# Altium schematic symbol library Inductors.SchLib: 25 symbols
Pins are listed as number, name and electrical type; pins without a type are passive.

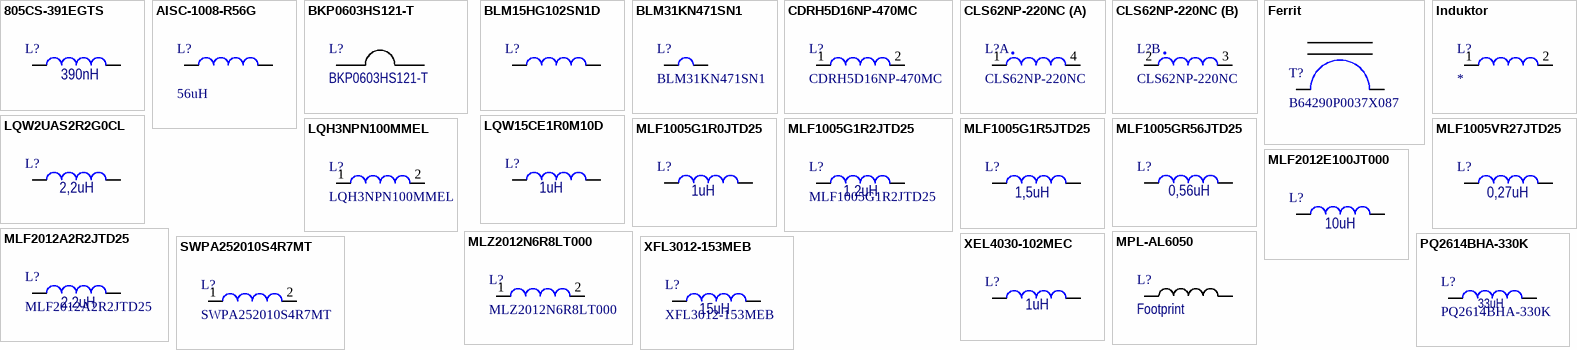
[diagram p0: symbols 805CS-391EGTS to XFL3012-153MEB]

## 805CS-391EGTS
designator L?  value 390nH  (hidden comment: 805CS-391EGTS)
FIXED IND 390NH 290MA 1.5OHM SMD
footprint 0805CS-391EGTS
pins: 1, 2

## AISC-1008-R56G
designator L?  value 56uH  (hidden comment: AISC-1008-R56G)
SMD Wire-Wound Chip Inductor (Ceramic or Ferrite Core)
footprint AISC-1008-R56G
pins: 1, 2

## BKP0603HS121-T
designator L?
Ferrite Beads HI CUR LW RDC 0201 120 OHM 25%
footprint Beam 0201 (0603) (Ferrite Beam)
pins: 1, 2

## BLM15HG102SN1D
designator L?, comment Murata Electronics BLM15HG102SN1D  (value not drawn)
1.1Ω ±25% 1kΩ@100MHz 0402 Ferrite Beads ROHS; Supplier 1: Mouser; Supplier Part Number 1: 81-BLM15HG102SN1D
footprint MLF1005G1R2JTD25
pins: 1, 2

## BLM31KN471SN1
designator L?
Chip Ferrite Bead
footprint BLM31KN471SN1
pins: 1, 2

## CDRH5D16NP-470MC
designator L?
600mA 47uH ±20% 680mA - Power Inductors ROHS
footprint CDRH5D16NP-470MC
pins: 1, 2

## CLS62NP-220NC
designator L?
22 µH Shielded Inductor 468 mA 355mOhm Max 4-SMD
footprint CLS62NP-220NC
part A pins: 1, 4
part B pins: 2, 3

## Ferrit
designator T?, comment B64290P0037X087
Сердечник N87 R6,3x3,8x2,5
footprint Ferrite
pins: 1, 2

## Induktor
designator L?
pins: 1, 2

## LQH3NPN100MMEL
designator L?
800mA 10uH ±20% 810mA 190mΩ SMD,3x3mm Inductors (SMD) ROHS
footprint Inductor 3x3mm
pins: 1, 2

## LQW2UAS2R2G0CL
designator L?  value 2,2uH  (hidden comment: LQW2UAS2R2G0CL)
FIXED IND 2.2UH 280MA 2.8OHM SMD
footprint LQW2UAS2R2G0CL
pins: 1, 2

## LQW15CE1R0M10D
designator L?  value 1uH  (hidden comment: LQW15CE1R0M10D)
135mA 1uH ±20% 480mA 0402  Power Inductors ROHS
footprint LQW15CE1R0M10D
pins: 1, 2

## MLF1005G1R0JTD25
designator L?  value 1uH  (hidden comment: MLF1005G1R0JTD25)
RF Inductors - SMD 0402 1.0uH 5% AEC-Q200
footprint MLF1005G1R2JTD25
pins: 1, 2

## MLF1005G1R2JTD25
designator L?  value 1,2uH
RF Inductors - SMD 0402 1.2uH 5% AEC-Q200
footprint MLF1005G1R2JTD25
pins: 1, 2

## MLF1005G1R5JTD25
designator L?  value 1,5uH  (hidden comment: MLF1005G1R5JTD25)
RF Inductors - SMD 0402 1.5uH 5% AEC-Q200
footprint MLF1005G1R2JTD25
pins: 1, 2

## MLF1005GR56JTD25
designator L?  value 0,56uH  (hidden comment: MLF1005GR56JTD25)
RF Inductors - SMD 0402 0.56uH 5% AEC-Q200
footprint MLF1005G1R2JTD25
pins: 1, 2

## MLF1005VR27JTD25
designator L?  value 0,27uH  (hidden comment: MLF1005VR27JTD25)
RF Inductors - SMD 0402 0.27uH 5% AEC-Q200
footprint MLF1005G1R2JTD25
pins: 1, 2

## MLF2012A2R2JTD25
designator L?  value 2.2uH
RF Inductors - SMD 2.2uH 500mohms 50mA +/-5% Fer AEC-Q200
footprint MLF2012A2R2JTD25
pins: 1, 2

## MLF2012E100JT000
designator L?  value 10uH  (hidden comment: MLF2012E100JT000)
RF Inductors - SMD 10uH 800mohms 15mA +/-5% Fer AEC-Q200
footprint MLF2012A2R2JTD25
pins: 1, 2

## MLZ2012N6R8LT000
designator L?
SMD / SMT Inductors
footprint MLZ2012N6R8LT000
pins: 1, 2

## MPL-AL6050
designator L?, comment Footprint
Low-Profile Molded Inductor; Value: 4,7uH
footprint MPL-AL6050 (Low-Profile Molded Inductor)
pins: 1, 2

## PQ2614BHA-330K
designator L?  value 33uH
Power Inductors - SMD 33uH 10% 30A AEC-Q200 GULL WING
footprint PQ2614BHA-330K
pins: 1, 2

## SWPA252010S4R7MT
designator L?
760mA 4.7uH ±20% 1.15A 1008 Power Inductors ROHS
footprint INDUCTOR 25x20
pins: 1, 2

## XEL4030-102MEC
designator L?  value 1uH  (hidden comment: XEL4030-102MEC)
1 µH Shielded Molded Inductor 10.7 A 9.78mOhm Max 1616 (4040 Metric)
footprint XEL4030-102MEC
pins: 1, 2

## XFL3012-153MEB
designator L?  value 15uH
Power Inductors - SMD 15Uh Shld 1A 483mOhms AECQ2
footprint XFL3012-153MEB
pins: 1, 2